# Altium footprint library TI-EF16.PcbLib: 1 footprints
Each footprint in its own frame and in the unit in brackets; x right, y up, seen from the top. Pads: shape width x height; smd on the part's side, far side on the other; paste and mask are expansions set on the pad; w line width, h text height; cw(c..) or ccw(c..) is an arc to the next point about the centre after c.
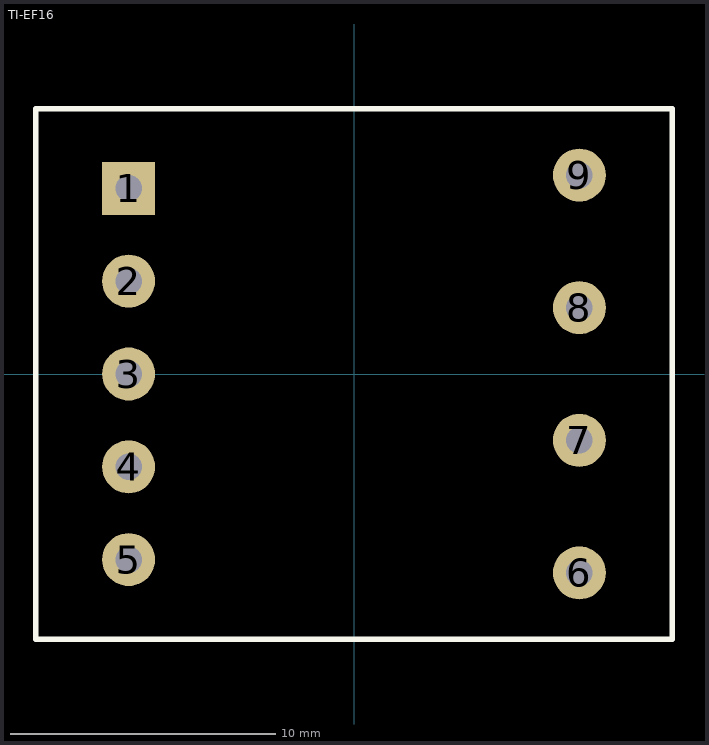
[diagram p0: the footprint, top view; thin cyan lines are the x and y axes]

## TI-EF16 [mm]
pads (9):
  rect 2x2 hole 1: 1(-8.5,7)
  round 2 hole 1: 2(-8.5,3.5) 3(-8.5,0) 4(-8.5,-3.5) 5(-8.5,-7) 6(8.5,-7.5) 7(8.5,-2.5) 8(8.5,2.5) 9(8.5,7.5)
Top Overlay:
  lines w0.203: -12,-10 12,-10 12,10 -12,10 -12,-10
3D body: height 16, standoff 0, extent -12.065,-10.033 12.065,10.033